# Altium footprint library EB-USB-OTG1.PcbLib: 8 footprints
Each footprint in its own frame and in the unit in brackets; x right, y up, seen from the top. Pads: shape width x height; smd on the part's side, far side on the other; paste and mask are expansions set on the pad; w line width, h text height; cw(c..) or ccw(c..) is an arc to the next point about the centre after c.
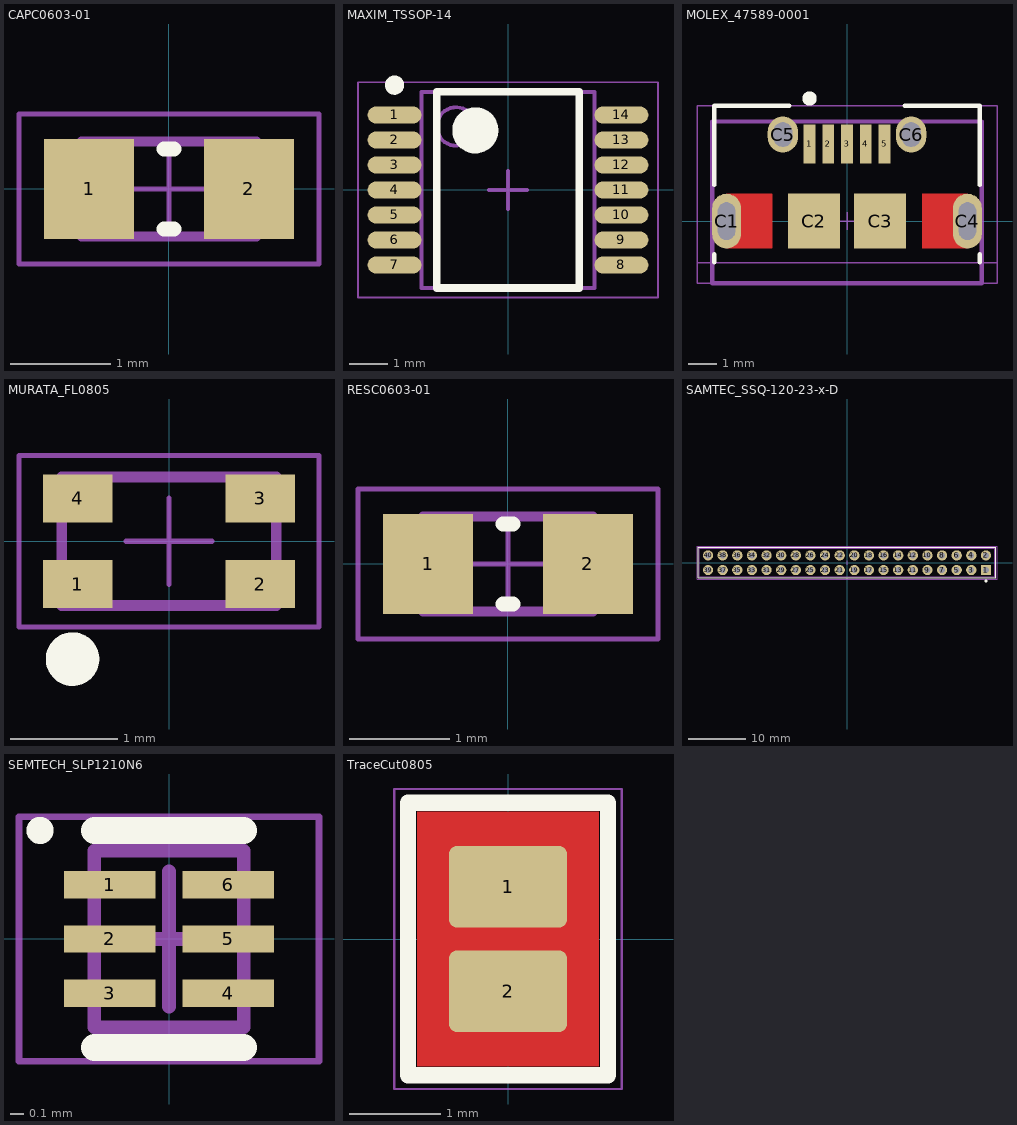
[diagram p0: the footprints below, top view; thin cyan lines are the x and y axes]

## CAPC0603-01 [mm] "Chip Capacitor, Body 1.6x0.8mm, Height 0.55mm, IPC Medium Density"
height 0.55
pads (2):
  rect 0.9x1 smd: 1(-0.8,0) 2(0.8,0)
Top Overlay:
  lines w0.15: -0.05,-0.4 0.05,-0.4 ; -0.05,0.4 0.05,0.4
Mechanical 13:
  lines w0.1: -0.875,-0.475 -0.875,0.475 0.875,0.475 0.875,-0.475 -0.875,-0.475
Mechanical 15:
  lines w0.05: -0.475,0 0.475,0 ; 0,-0.475 0,0.475 ; -1.5,-0.75 -1.5,0.75 1.5,0.75 1.5,-0.75 -1.5,-0.75
3D body: height 0.55, standoff 0, extent -0.525,-0.475 0.525,0.475
3D body: height 0.55, standoff 0, extent -0.875,-0.475 -0.525,0.475
3D body: height 0.55, standoff 0, extent 0.525,-0.475 0.875,0.475

## MAXIM_TSSOP-14 [mm] "TSOP, 14-Leads, Body 5.00x4.40mm, Pitch 0.65mm, IPC Medium Density"
height 1.1
pads (14):
  oval 1.4x0.45 smd: 1(-2.95,1.95) 2(-2.95,1.3) 3(-2.95,0.65) 4(-2.95,0) 5(-2.95,-0.65) 6(-2.95,-1.3) 7(-2.95,-1.95) 8(2.95,-1.95) 9(2.95,-1.3) 10(2.95,-0.65) 11(2.95,0) 12(2.95,0.65) 13(2.95,1.3) 14(2.95,1.95)
Top Overlay:
  circle w0.25: c-2.95,2.725 r0.125
  circle w0.6: c-0.85,1.55 r0.3
  lines w0.2: -1.85,-2.55 -1.85,2.55 1.85,2.55 1.85,-2.55 -1.85,-2.55
Mechanical 13:
  circle w0.1: c-1.35,1.65 r0.5
  lines w0.1: -2.25,-2.55 -2.25,2.55 2.25,2.55 2.25,-2.55 -2.25,-2.55
Mechanical 15:
  lines w0.05: -3.9,-2.8 -3.9,2.8 3.9,2.8 3.9,-2.8 -3.9,-2.8
  lines w0.1: -0.5,0 0.5,0 ; 0,-0.5 0,0.5
3D body "MAXIM_TSSOP-14.step": height 1.1, standoff 0, extent -3.2,-2.55 3.2,2.55

## MOLEX_47589-0001 [mm] "Molex USB Micro AB SMT with retention"
height 3.07
pads (11):
  rect 0.4x1.35 smd: 1(-1.3,2.675) 2(-0.65,2.675) 3(0,2.675) 4(0.65,2.675) 5(1.3,2.675)
  rrect100% 1x1.9 hole 1.3 slot 0.6 at 0 deg: C1(-4.175,0) C4(4.175,0)
  rect 1.8x1.9 smd: C2(-1.15,0) C3(1.15,0)
  rrect100% 1.05x1.25 hole 0.85 slot 0.65 at 0 deg: C5(-2.225,3) C6(2.225,3)
Top Layer:
  region: -4.175,0.95 -2.6,0.95 -2.6,-0.95 -4.175,-0.95
  region: 4.175,-0.95 2.6,-0.95 2.6,0.95 4.175,0.95
Top Overlay:
  circle w0.25: c-1.3,4.25 r0.125
  lines w0.15: -4.6,-1.425 -4.6,-1.15 ; -4.6,1.25 -4.6,4 -2,4 ; 2,4 4.6,4 4.6,1.25 ; 4.6,-1.425 4.6,-1.15
Top Solder:
  region: -1.7,1.9 1.7,1.9 1.7,3.45 -1.7,3.45
Mechanical 13:
  lines w0.15: -4.675,-2.15 -4.675,3.45 4.675,3.45 4.675,-2.15 -4.675,-2.15
Mechanical 15:
  lines w0.05: -5.2,-1.45 5.2,-1.45 ; -0.3,0 0.3,0 0,0 ; 0,-0.3 0,0.3 ; -5.2,-2.15 5.2,-2.15 5.2,4 -5.2,4 -5.2,-2.15
3D body "molex-47589-0001.step": height 2.75, standoff -0.56, extent -4.325,-2.7 4.325,3.194

## MURATA_FL0805 [mm] "Choke Filter, 4p, Body 1.2x2.0x1.2mm,  IPC Medium Density"
height 1.2
pads (4):
  rect 0.65x0.45 smd: 1(-0.85,-0.4) 2(0.85,-0.4) 3(0.85,0.4) 4(-0.85,0.4)
Top Overlay:
  circle w0.25: c-0.9,-1.1 r0.125
Mechanical 13:
  lines w0.1: -1,-0.6 -1,0.6 1,0.6 1,-0.6 -1,-0.6
Mechanical 15:
  lines w0.05: -0.4,0 0.4,0 ; 0,-0.4 0,0.4 ; -1.4,-0.8 -1.4,0.8 1.4,0.8 1.4,-0.8 -1.4,-0.8
3D body "Murata_EMI Filter DLW21S.STEP": height 1.2, standoff 0, extent -1,-0.6 1,0.6

## RESC0603-01 [mm] "Chip Resistor, Body 1.6x0.8mm, IPC Medium Density"
height 0.6
pads (2):
  rect 0.9x1 smd: 1(-0.8,0) 2(0.8,0)
Top Overlay:
  lines w0.15: -0.05,-0.4 0.05,-0.4 ; -0.05,0.4 0.05,0.4
Mechanical 13:
  lines w0.1: -0.85,-0.475 0.85,-0.475 0.85,0.475 -0.85,0.475 -0.85,-0.475
Mechanical 15:
  lines w0.05: -0.475,0 0.475,0 ; 0,-0.475 0,0.475 ; -1.5,-0.75 1.5,-0.75 1.5,0.75 -1.5,0.75 -1.5,-0.75
3D body: height 0.6, standoff 0, extent -0.849,-0.474 -0.58,0.475
3D body: height 0.6, standoff 0, extent -0.58,-0.474 0.581,0.475
3D body: height 0.6, standoff 0, extent 0.581,-0.474 0.85,0.475

## SAMTEC_SSQ-120-23-x-D [mil] "SAMTEC Header Female 2.54mm pitch 40pos 2x20, 10.00mm pins"
height 335
pads (40):
  rect 70x70 hole 40: 1(950,-50)
  round 70 hole 40: 2(950,50) 3(850,-50) 4(850,50) 5(750,-50) 6(750,50) 7(650,-50) 8(650,50) 9(550,-50) 10(550,50) 11(450,-50) 12(450,50) 13(350,-50) 14(350,50) 15(250,-50) 16(250,50) 17(150,-50) 18(150,50) 19(50,-50) 20(50,50) 21(-50,-50) 22(-50,50) 23(-150,-50) 24(-150,50) 25(-250,-50) 26(-250,50) 27(-350,-50) 28(-350,50) 29(-450,-50) 30(-450,50) 31(-550,-50) 32(-550,50) 33(-650,-50) 34(-650,50) 35(-750,-50) 36(-750,50) 37(-850,-50) 38(-850,50) 39(-950,-50) 40(-950,50)
Top Overlay:
  circle w9.84: c950,-125 r4.92
  lines w5.91: -1017.72,-104.33 -1017.72,104.33 1017.72,104.33 1017.72,-104.33 -1017.72,-104.33
Mechanical 13:
  lines w5.91: -1010.04,-97.44 -1010.04,97.44 1010.04,97.44 1010.04,-97.44 -1010.04,-97.44
Mechanical 15:
  lines w1.97: 0,-15 0,15 ; -1025.59,-112.2 1025.59,-112.2 1025.59,112.2 -1025.59,112.2 -1025.59,-112.2
3D body "samtec SSQ-120-23-G-D color.step": height 335, standoff -394, extent -1010,-97.5 1010,97.5

## SEMTECH_SLP1210N6 [mm] "Semtech, 6 pin SON, SLP1210N6"
height 0.65
pads (6):
  rect 0.675x0.2 smd: 1(-0.437,0.4) 2(-0.437,0) 3(-0.437,-0.4) 4(0.437,-0.4) 5(0.437,0) 6(0.437,0.4)
Top Overlay:
  circle w0.1: c-0.95,0.8 r0.05
  lines w0.2: -0.55,-0.8 0.55,-0.8 ; -0.55,0.8 0.55,0.8
Top Solder:
  region: -0.88,0.6 -0.88,-0.6 0.88,-0.6 0.88,0.6
Mechanical 13:
  lines w0.1: -0.55,-0.65 -0.55,0.65 0.55,0.65 0.55,-0.65 -0.55,-0.65
Mechanical 15:
  lines w0.05: -1.105,-0.9 -1.105,0.9 1.105,0.9 1.105,-0.9 -1.105,-0.9
  lines w0.1: -0.5,0 0.5,0 ; 0,-0.5 0,0.5
3D body "SEMTECH_SLP1210N6.step": height 0.65, standoff 0, extent -0.551,-0.65 0.551,0.65

## TraceCut0805 [mm] "0805-size Pads only on PCB with an 8mil wide cuttable trace to allow separation"
height 19.05
pads (2):
  rrect20% 1.3x0.9 smd paste-0.6 mask+0.25: 1(0,0.575) 2(0,-0.575)
Top Layer:
  rectangle: -0.1,-0.3 0.1,0.3
  pour cut-out: -1,1.4 1,1.4 1,-1.4 -1,-1.4
Top Overlay:
  lines w0.18: -1.1,-1.5 1.1,-1.5 1.1,1.5 -1.1,1.5 -1.1,-1.5
Top Solder:
  lines w0.2: -0.8,-0.5 -0.8,0.5 ; 0.8,-0.5 0.8,0.5
Mechanical 15:
  lines w0.025: -1.25,-1.65 1.25,-1.65 1.25,1.65 -1.25,1.65 -1.25,-1.65